# EAGLE library part 10PIN (library connector)
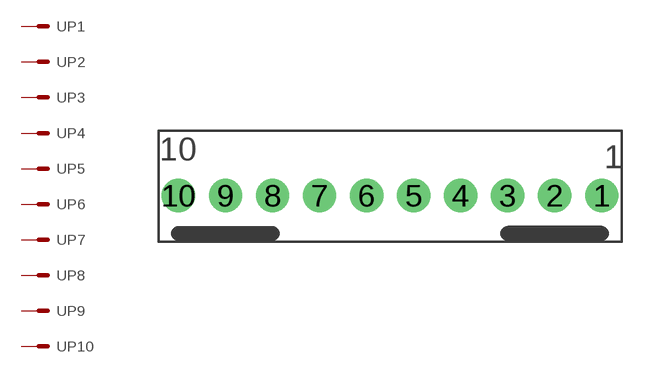
[diagram p4: symbol with the pads of 10PIN; footprint 10PIN]

Designator prefix -; gates P1=M P2=M P3=M P4=M P5=M P6=M P7=M P8=M P9=M P10=M

## 10PIN  [10PIN]
1  P1:S  pas
2  P2:S  pas
3  P3:S  pas
4  P4:S  pas
5  P5:S  pas
6  P6:S  pas
7  P7:S  pas
8  P8:S  pas
9  P9:S  pas
10  P10:S  pas

## Footprint 10PIN (pad centres in mm)
drill 1 pad 1.8: 1 11.43,-0.5; 2 8.89,-0.5; 3 6.35,-0.5; 4 3.81,-0.5; 5 1.27,-0.5; 6 -1.27,-0.5; 7 -3.81,-0.5; 8 -6.35,-0.5; 9 -8.89,-0.5; 10 -11.43,-0.5